# Altium schematic symbol library SCH - ARM CORTEX - NXP LPC176X WLCSP100.SCHLIB: 1 symbol
Pins are listed as number, name and electrical type; pins without a type are passive.

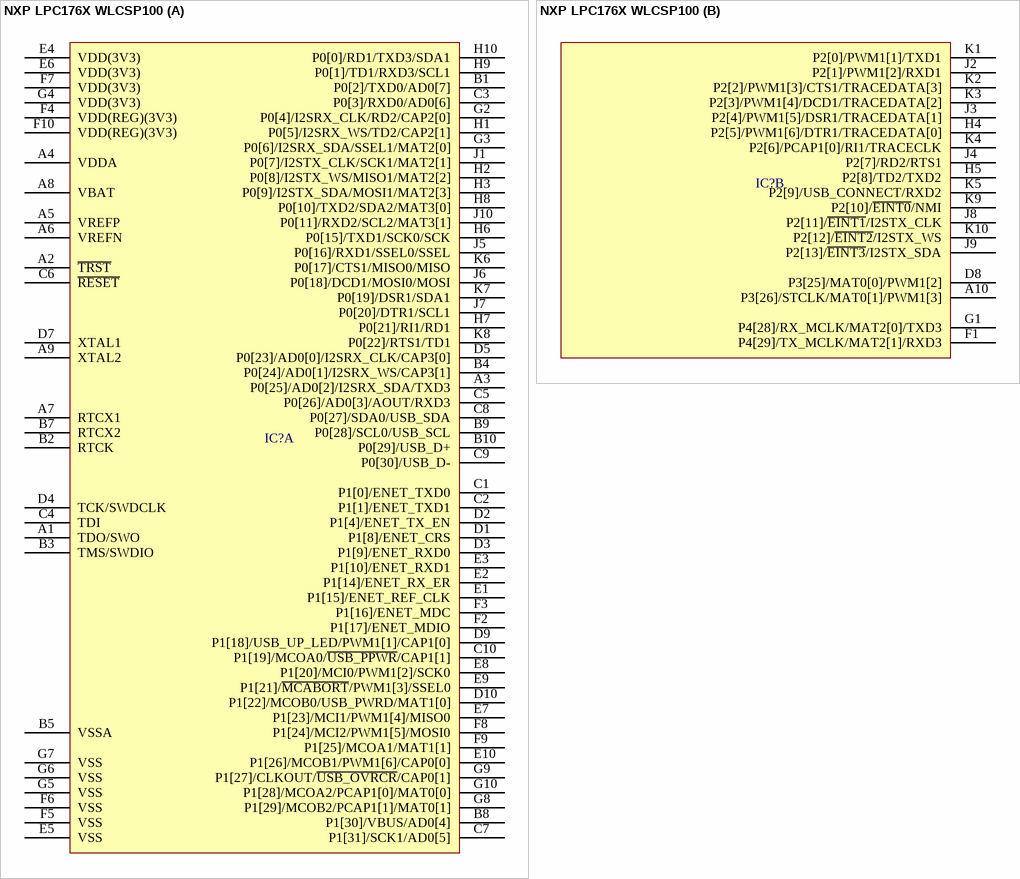
[diagram p0: symbol NXP LPC176X WLCSP100]

## NXP LPC176X WLCSP100
designator IC?  (value not drawn)
part A pins: A1 TDO/SWO, A2 ~{TRST}, A3 P0[25]/AD0[2]/I2SRX_SDA/TXD3, A4 VDDA, A5 VREFP, A6 VREFN, A7 RTCX1, A8 VBAT, A9 XTAL2, B1 P0[2]/TXD0/AD0[7], B2 RTCK, B3 TMS/SWDIO, B4 P0[24]/AD0[1]/I2SRX_WS/CAP3[1], B5 VSSA, B7 RTCX2, B8 P1[30]/VBUS/AD0[4], B9 P0[28]/SCL0/USB_SCL, B10 P0[29]/USB_D+, C1 P1[0]/ENET_TXD0, C2 P1[1]/ENET_TXD1, C3 P0[3]/RXD0/AD0[6], C4 TDI, C5 P0[26]/AD0[3]/AOUT/RXD3, C6 ~{RESET}, C7 P1[31]/SCK1/AD0[5], C8 P0[27]/SDA0/USB_SDA, C9 P0[30]/USB_D-, C10 P1[19]/MCOA0/~{USB_PPWR}/CAP1[1], D1 P1[8]/ENET_CRS, D2 P1[4]/ENET_TX_EN, D3 P1[9]/ENET_RXD0, D4 TCK/SWDCLK, D5 P0[23]/AD0[0]/I2SRX_CLK/CAP3[0], D7 XTAL1, D9 P1[18]/USB_UP_LED/PWM1[1]/CAP1[0], D10 P1[22]/MCOB0/USB_PWRD/MAT1[0], E1 P1[15]/ENET_REF_CLK, E2 P1[14]/ENET_RX_ER, E3 P1[10]/ENET_RXD1, E4 VDD(3V3), E5 VSS, E6 VDD(3V3), E7 P1[23]/MCI1/PWM1[4]/MISO0, E8 P1[20]/MCI0/PWM1[2]/SCK0, E9 P1[21]/~{MCABORT}/PWM1[3]/SSEL0, E10 P1[26]/MCOB1/PWM1[6]/CAP0[0], F2 P1[17]/ENET_MDIO, F3 P1[16]/ENET_MDC, F4 VDD(REG)(3V3), F5 VSS, F6 VSS, F7 VDD(3V3), F8 P1[24]/MCI2/PWM1[5]/MOSI0, F9 P1[25]/MCOA1/MAT1[1], F10 VDD(REG)(3V3), G2 P0[4]/I2SRX_CLK/RD2/CAP2[0], G3 P0[6]/I2SRX_SDA/SSEL1/MAT2[0], G4 VDD(3V3), G5 VSS, G6 VSS, G7 VSS, G8 P1[29]/MCOB2/PCAP1[1]/MAT0[1], G9 P1[27]/CLKOUT/~{USB_OVRCR}/CAP0[1], G10 P1[28]/MCOA2/PCAP1[0]/MAT0[0], H1 P0[5]/I2SRX_WS/TD2/CAP2[1], H2 P0[8]/I2STX_WS/MISO1/MAT2[2], H3 P0[9]/I2STX_SDA/MOSI1/MAT2[3], H6 P0[15]/TXD1/SCK0/SCK, H7 P0[21]/RI1/RD1, H8 P0[10]/TXD2/SDA2/MAT3[0], H9 P0[1]/TD1/RXD3/SCL1, H10 P0[0]/RD1/TXD3/SDA1, J1 P0[7]/I2STX_CLK/SCK1/MAT2[1], J5 P0[16]/RXD1/SSEL0/SSEL, J6 P0[18]/DCD1/MOSI0/MOSI, J7 P0[20]/DTR1/SCL1, J10 P0[11]/RXD2/SCL2/MAT3[1], K6 P0[17]/CTS1/MISO0/MISO, K7 P0[19]/DSR1/SDA1, K8 P0[22]/RTS1/TD1
part B pins: A10 P3[26]/STCLK/MAT0[1]/PWM1[3], D8 P3[25]/MAT0[0]/PWM1[2], F1 P4[29]/TX_MCLK/MAT2[1]/RXD3, G1 P4[28]/RX_MCLK/MAT2[0]/TXD3, H4 P2[5]/PWM1[6]/DTR1/TRACEDATA[0], H5 P2[8]/TD2/TXD2, J2 P2[1]/PWM1[2]/RXD1, J3 P2[4]/PWM1[5]/DSR1/TRACEDATA[1], J4 P2[7]/RD2/RTS1, J8 P2[11]/~{EINT1}/I2STX_CLK, J9 P2[13]/~{EINT3}/I2STX_SDA, K1 P2[0]/PWM1[1]/TXD1, K2 P2[2]/PWM1[3]/CTS1/TRACEDATA[3], K3 P2[3]/PWM1[4]/DCD1/TRACEDATA[2], K4 P2[6]/PCAP1[0]/RI1/TRACECLK, K5 P2[9]/USB_CONNECT/RXD2, K9 P2[10]/~{EINT0}/NMI, K10 P2[12]/~{EINT2}/I2STX_WS